# Altium footprint library Tank.PcbLib: 288 footprints (part 9 of 18)
Each footprint in its own frame and in the unit in brackets; x right, y up, seen from the top. Pads: shape width x height; smd on the part's side, far side on the other; paste and mask are expansions set on the pad; w line width, h text height; cw(c..) or ccw(c..) is an arc to the next point about the centre after c.
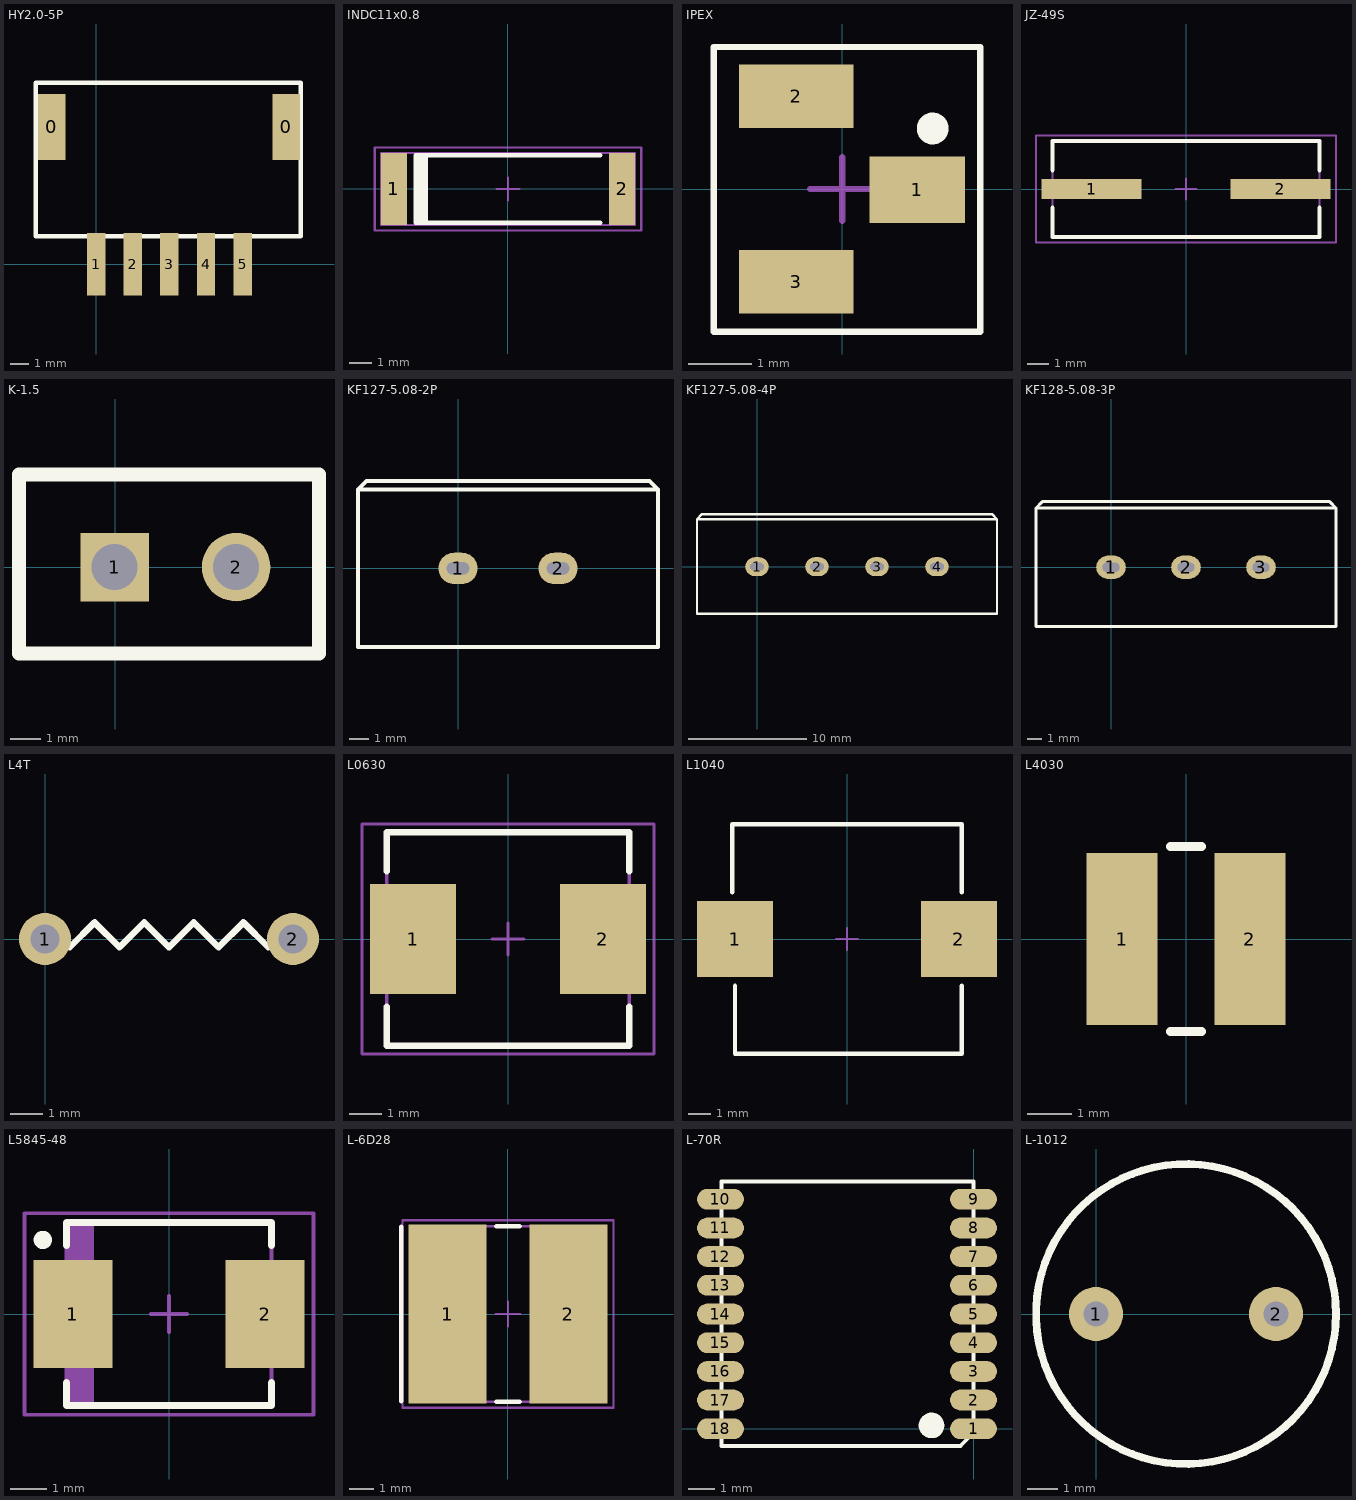
[diagram p8: the footprints below, top view; thin cyan lines are the x and y axes]

## HY2.0-5P [mm]
pads (7):
  rect 1.5x3.6 smd: 0(-2.413,7.493) 0(10.369,7.493)
  rect 1x3.4 smd: 1(0,0) 2(2,0) 3(4,0) 4(6,0) 5(8,0)
Top Overlay:
  lines w0.254: -3.302,1.524 11.176,1.524 11.176,9.906 -3.302,9.906 -3.302,1.524

## INDC11x0.8 [mm] "Chip Inductor, 2-Leads, Body 11.2x3.1mm, IPC Medium Density"
height 0.6
pads (2):
  rect 1.15x3.2 smd: 1(-5.075,0) 2(5.075,0)
Top Overlay:
  rectangle: -4.1,-1.5 -3.55,1.5
  lines w0.2: 4.1,-1.5 -4.1,-1.5 -4.1,1.5 4.1,1.5
Mechanical 13:
  lines w0.1: -5.65,-1.6 -5.65,1.6 5.65,1.6 5.65,-1.6 -5.65,-1.6
Mechanical 15:
  lines w0.1: -0.5,0 0.5,0 ; 0,-0.5 0,0.5 ; -5.925,-1.85 -5.925,1.85 5.925,1.85 5.925,-1.85 -5.925,-1.85
3D body: height 0.6, standoff 0, extent -5.65,-1.6 5.65,1.6

## IPEX [mm] "SOT23, 3-Leads, Body 3.0x2.6mm (max), Pitch 0.95mm, IPC Medium Density"
height 1.1
pads (3):
  rect 1.5x1.05 smd: 1(1.181,-0.013)
  rect 1.8x1 smd: 2(-0.724,1.46) 3(-0.724,-1.46)
Top Overlay:
  circle w0.25: c1.424,0.953 r0.125
  lines w0.1: -2.019,-2.248 -2.019,2.235 2.172,2.235 2.172,-2.248 -2.019,-2.248
Mechanical 15:
  lines w0.1: -0.5,0 0.5,0 ; 0,-0.5 0,0.5

## JZ-49S [mm]
height 3.5
pads (2):
  rect 4.7x0.95 smd: 1(-4.425,0) 2(4.425,0)
Top Overlay:
  lines w0.2: -6.25,-0.875 -6.25,-2.25 6.25,-2.25 6.25,-0.875 ; -6.25,0.875 -6.25,2.25 6.25,2.25 6.25,0.875
Mechanical 13:
  lines w0.1: -6.25,-2.25 -6.25,2.25 6.25,2.25 6.25,-2.25 -6.25,-2.25
Mechanical 15:
  lines w0.1: -0.5,0 0.5,0 ; 0,-0.5 0,0.5 ; -7.025,-2.5 -7.025,2.5 7.025,2.5 7.025,-2.5 -7.025,-2.5
3D body: height 3.5, standoff 0, extent -6.25,-2.235 6.25,2.265

## K-1.5 [mm]
pads (2):
  rect 2.224x2.224 hole 1.5: 1(-0.025,0)
  round 2.224 hole 1.5: 2(3.912,0)
Top Overlay:
  lines w0.457: -3.124,-2.8 6.6,-2.8 6.6,3 -3.124,3 -3.124,-2.8

## KF127-5.08-2P [mm]
pads (2):
  oval 2x1.6 hole 0.625 slot 1.15 at 0 deg: 1(0,0) 2(5.08,0)
Top Overlay:
  lines w0.203: -5.08,4.013 -4.648,4.445 9.728,4.445 10.16,4.013 10.16,-4 -5.08,-4 -5.08,0 -5.08,4 10.16,4

## KF127-5.08-4P [mm]
pads (4):
  oval 2x1.6 hole 0.625 slot 1.15 at 0 deg: 1(0,0) 2(5.08,0) 3(10.16,0) 4(15.24,0)
Top Overlay:
  lines w0.203: -5.08,4.013 -4.648,4.445 19.888,4.445 20.32,4.013 ; -5.08,-4 20.32,-4 20.32,4 10.16,4 -5.08,4 -5.08,0 -5.08,-4

## KF128-5.08-3P [mm]
pads (3):
  oval 2x1.6 hole 0.625 slot 1.15 at 0 deg: 1(0,0) 2(5.08,0) 3(10.16,0)
Top Overlay:
  lines w0.203: -5.08,4.013 -4.648,4.445 14.808,4.445 15.24,4.013 ; -5.08,-4 15.24,-4 15.24,4 10.16,4 -5.08,4 -5.08,0 -5.08,-4

## L4T [mm]
pads (2):
  round 1.6 hole 0.9: 1(0,0) 2(7.62,0)
Top Overlay:
  lines w0.203: 0.762,-0.254 1.524,0.508 2.286,-0.254 3.048,0.508 3.81,-0.254 4.572,0.508 5.334,-0.254 6.096,0.508 6.858,-0.254

## L0630 [mm]
height 3
pads (2):
  rect 2.7x3.45 smd: 1(-2.975,0) 2(2.975,0)
Top Overlay:
  lines w0.2: -3.8,-2.125 -3.8,-3.35 3.8,-3.35 3.8,-2.125 ; -3.8,2.125 -3.8,3.35 3.8,3.35 3.8,2.125
Mechanical 13:
  lines w0.1: -3.8,-3.35 -3.8,3.35 3.8,3.35 3.8,-3.35 -3.8,-3.35
Mechanical 15:
  lines w0.1: -0.5,0 0.5,0 ; 0,-0.5 0,0.5 ; -4.575,-3.6 -4.575,3.6 4.575,3.6 4.575,-3.6 -4.575,-3.6
3D body: height 3, standoff 0, extent -3.8,-3.35 3.8,3.35

## L1040 [mm]
pads (2):
  rect 3.45x3.45 smd: 1(-5.08,0) 2(5.08,0)
Top Overlay:
  lines w0.2: -5.207,2.125 -5.207,5.207 5.207,5.207 5.207,2.125 ; -5.08,-2.125 -5.08,-5.207 5.207,-5.207 5.207,-2.125
Mechanical 15:
  lines w0.1: -0.5,0 0.5,0 ; 0,-0.5 0,0.5

## L4030 [mm]
pads (2):
  rect 1.6x3.9 smd: 1(-1.45,0) 2(1.45,0)
Top Overlay:
  lines w0.2: -0.35,-2.1 0.35,-2.1 ; -0.35,2.1 0.35,2.1

## L5845-48 [mm] "Precision Wire Wound Inductor, 2-Leads, Body 5.8x5.2mm, IPC Medium Density"
height 4.8
pads (2):
  rect 2.15x2.95 smd: 1(-2.625,0) 2(2.625,0)
Top Overlay:
  circle w0.25: c-3.45,2.025 r0.125
  lines w0.2: -2.8,-1.875 -2.8,-2.5 2.8,-2.5 2.8,-1.875 ; -2.8,1.875 -2.8,2.5 2.8,2.5 2.8,1.875
Mechanical 13:
  rectangle: -2.8,-2.5 -2.047,2.5
  lines w0.1: -2.8,-2.5 -2.8,2.5 2.8,2.5 2.8,-2.5 -2.8,-2.5
Mechanical 15:
  lines w0.1: -0.5,0 0.5,0 ; 0,-0.5 0,0.5 ; -3.95,-2.75 -3.95,2.75 3.95,2.75 3.95,-2.75 -3.95,-2.75
3D body: height 4.8, standoff 0, extent -2.8,-2.5 2.8,2.5

## L-6D28 [mm]
height 3
pads (2):
  rect 3.2x7.35 smd: 1(-2.475,0) 2(2.475,0)
Top Overlay:
  lines w0.2: -4.375,-3.575 -4.375,3.575 ; -0.475,-3.6 0.475,-3.6 ; -0.475,3.6 0.475,3.6
Mechanical 13:
  rectangle: -3.5,-3.6 -2.558,3.6
  lines w0.1: -3.5,-3.6 -3.5,3.6 3.5,3.6 3.5,-3.6 -3.5,-3.6
Mechanical 15:
  lines w0.1: -0.5,0 0.5,0 ; 0,-0.5 0,0.5 ; -4.325,-3.85 -4.325,3.85 4.325,3.85 4.325,-3.85 -4.325,-3.85
3D body: height 3, standoff 0, extent -3.5,-3.6 3.5,3.6

## L-70R [mm]
pads (18):
  oval 1.8x0.8 smd: 1(0,0) 2(0,1.1) 3(0,2.2) 4(0,3.3) 5(0,4.4) 6(0,5.5) 7(0,6.6) 8(0,7.7) 9(0,8.8) 10(-9.7,8.8) 11(-9.7,7.7) 12(-9.7,6.6) 13(-9.7,5.5) 14(-9.7,4.4) 15(-9.7,3.3) 16(-9.7,2.2) 17(-9.7,1.1) 18(-9.7,0)
Top Overlay:
  circle w0.5: c-1.611,0.127 r0.24
  lines w0.152: -9.652,-0.66 -0.508,-0.66 0,-0.152 0,9.474 -9.652,9.474 -9.652,-0.66

## L-1012 [mm]
pads (2):
  round 1.8 hole 0.82: 1(0,0) 2(6,0)
Top Overlay:
  circle w0.254: c3,0 r5